# Altium schematic symbol library schottky_diode.SchLib: 1 symbol
Pins are listed as number, name and electrical type; pins without a type are passive.

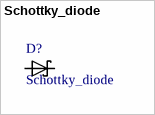
[diagram p0: symbol Schottky_diode]

## Schottky_diode
designator D?
General-purpose Schottky diodes
pins: A, C